# EAGLE library part KEYPAD4X4 (library keypad_4x4)
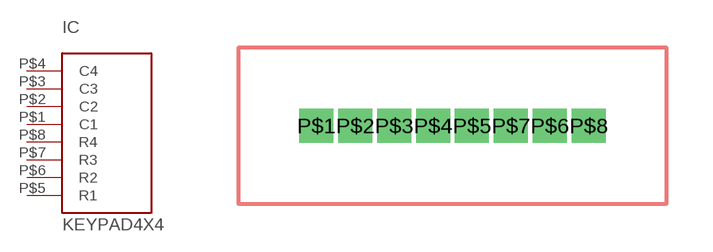
[diagram p0: symbol with the pads of NO_FOOTPRINT; footprint NO_FOOTPRINT]

Designator prefix IC

## KEYPAD4X4  [NO_FOOTPRINT]
P$1  C1
P$2  C2
P$3  C3
P$4  C4
P$5  R1
P$6  R2
P$7  R3
P$8  R4

## Footprint NO_FOOTPRINT (pad centres in mm)
drill 0.6 square: P$1 -7.62,0; P$2 -6.35,0; P$3 -5.08,0; P$4 -3.81,0; P$5 -2.54,0; P$6 0,0; P$7 -1.27,0; P$8 1.27,0